# EAGLE library part IN-12 (library Nixie)
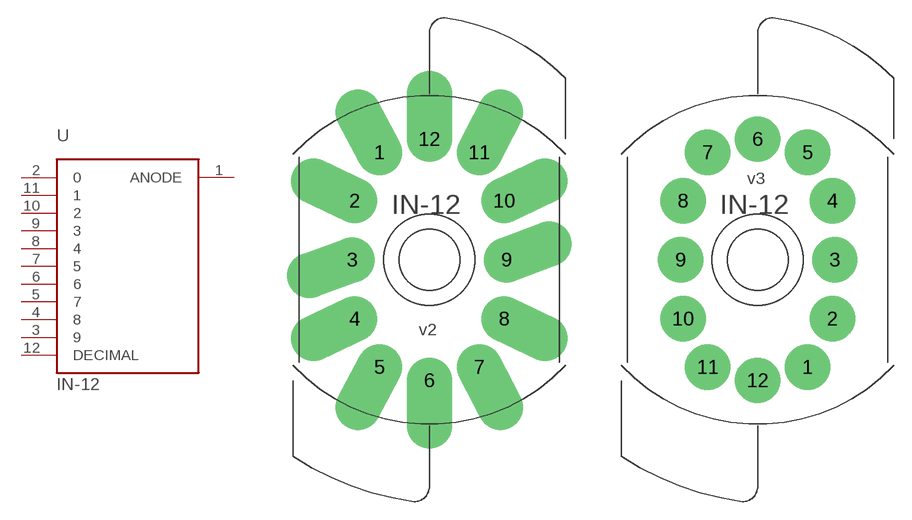
[diagram p0: symbol with the pads of IN-12-SOCKET; footprints IN-12-SOCKET, IN-12-SOCKET-V3]

Designator prefix -

## IN-12  [IN-12-SOCKET]
1  ANODE
2  0
3  9
4  8
5  7
6  6
7  5
8  4
9  3
10  2
11  1
12  DECIMAL

## IN-12-V3  [IN-12-SOCKET-V3]
Pads as for IN-12-SOCKET

## Footprint IN-12-SOCKET (pad centres in mm)
drill 2.8 pad 3.048 offset: 1 -4.191,9.017; 2 -6.274,4.953; 3 -6.477,0; 4 -6.274,-4.953; 5 -4.191,-9.017; 6 0,-10.135; 7 4.191,-9.017; 8 6.274,-4.953; 9 6.477,0; 10 6.274,4.953; 11 4.191,9.017; 12 0,10.135

## Footprint IN-12-SOCKET-V3 (pad centres in mm)
drill 2.8 pad 3.048: 1 4.191,-9.017; 2 6.274,-4.953; 3 6.477,0; 4 6.274,4.953; 5 4.191,9.017; 6 0,10.135; 7 -4.191,9.017; 8 -6.274,4.953; 9 -6.477,0; 10 -6.274,-4.953; 11 -4.191,-9.017; 12 0,-10.135